# EAGLE library part RPI-BC-MAIN (library RPI-BC)
RPI-BC Main PCB. Requires 40-way 2.54mm pitch Pi Header Strip, Phoenix Contact part code PSTD 0,65X0,65/40-2,54 Farnell 2550733, black but they are also available in white color The four external connectors are 2.5mm pitch Phoenix Contact part code PTSM 0,5/ 4-HH-2,5-THR Farnell 2470197 Mating connector for attaching wires is PTSM 0,5/ 4-P-2,5 Farnell 2776562 with push-in wire termination (20-24 AWG wire range).
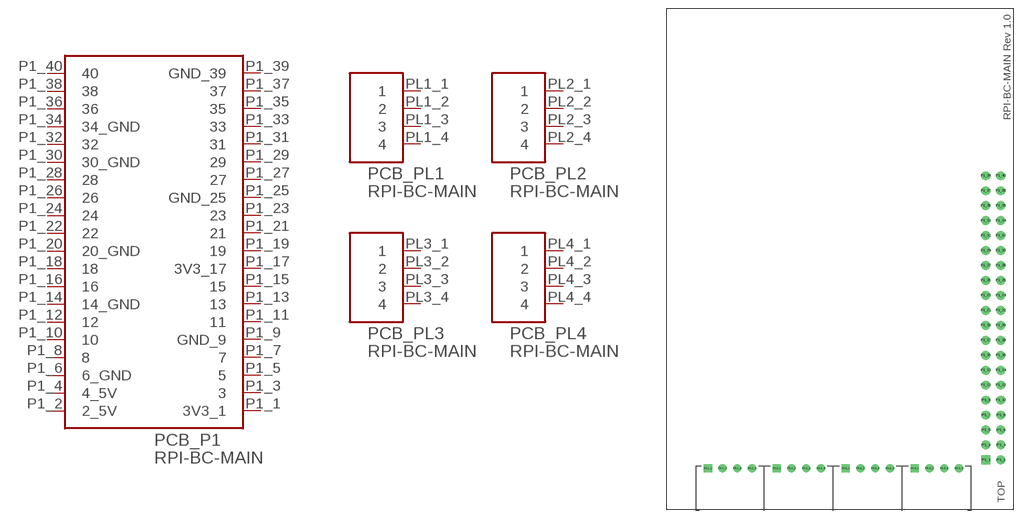
[diagram p0: symbol with the pads of RPI-BC-PCB; footprint RPI-BC-PCB]

Designator prefix PCB; gates _P1=RPI-BC-MAIN _PL1=RPI-BC-MAIN-PL _PL2=RPI-BC-MAIN-PL _PL3=RPI-BC-MAIN-PL _PL4=RPI-BC-MAIN-PL

## RPI-BC-MAIN  [RPI-BC-PCB]
P1_1  _P1:3V3_1
P1_2  _P1:2_5V
P1_3  _P1:3
P1_4  _P1:4_5V
P1_5  _P1:5
P1_6  _P1:6_GND
P1_7  _P1:7
P1_8  _P1:8
P1_9  _P1:GND_9
P1_10  _P1:10
P1_11  _P1:11
P1_12  _P1:12
P1_13  _P1:13
P1_14  _P1:14_GND
P1_15  _P1:15
P1_16  _P1:16
P1_17  _P1:3V3_17
P1_18  _P1:18
P1_19  _P1:19
P1_20  _P1:20_GND
P1_21  _P1:21
P1_22  _P1:22
P1_23  _P1:23
P1_24  _P1:24
P1_25  _P1:GND_25
P1_26  _P1:26
P1_27  _P1:27
P1_28  _P1:28
P1_29  _P1:29
P1_30  _P1:30_GND
P1_31  _P1:31
P1_32  _P1:32
P1_33  _P1:33
P1_34  _P1:34_GND
P1_35  _P1:35
P1_36  _P1:36
P1_37  _P1:37
P1_38  _P1:38
P1_39  _P1:GND_39
P1_40  _P1:40
PL1_1  _PL1:1
PL1_2  _PL1:2
PL1_3  _PL1:3
PL1_4  _PL1:4
PL2_1  _PL2:1
PL2_2  _PL2:2
PL2_3  _PL2:3
PL2_4  _PL2:4
PL3_1  _PL3:1
PL3_2  _PL3:2
PL3_3  _PL3:3
PL3_4  _PL3:4
PL4_1  _PL4:1
PL4_2  _PL4:2
PL4_3  _PL4:3
PL4_4  _PL4:4

## Footprint RPI-BC-PCB (pad centres in mm)
drill 1 square: P1_1 54.23,8.37
drill 1: P1_2 56.77,8.37; P1_3 54.23,10.91; P1_4 56.77,10.91; P1_5 54.23,13.45; P1_6 56.77,13.45; P1_7 54.23,15.99; P1_8 56.77,15.99; P1_9 54.23,18.53; P1_10 56.77,18.53; P1_11 54.23,21.07; P1_12 56.77,21.07; P1_13 54.23,23.61; P1_14 56.77,23.61; P1_15 54.23,26.15; P1_16 56.77,26.15; P1_17 54.23,28.69; P1_18 56.77,28.69; P1_19 54.23,31.23; P1_20 56.77,31.23; P1_21 54.23,33.77; P1_22 56.77,33.77; P1_23 54.23,36.31; P1_24 56.77,36.31; P1_25 54.23,38.85; P1_26 56.77,38.85; P1_27 54.23,41.39; P1_28 56.77,41.39; P1_29 54.23,43.93; P1_30 56.77,43.93; P1_31 54.23,46.47; P1_32 56.77,46.47; P1_33 54.23,49.01; P1_34 56.77,49.01; P1_35 54.23,51.55; P1_36 56.77,51.55; P1_37 54.23,54.09; P1_38 56.77,54.09; P1_39 54.23,56.63; P1_40 56.77,56.63
drill 0.9 square: PL1_1 7.05,6.95; PL2_1 18.75,6.95; PL3_1 30.45,6.95; PL4_1 42.15,6.95
drill 0.9: PL1_2 9.55,6.95; PL1_3 12.05,6.95; PL1_4 14.55,6.95; PL2_2 21.25,6.95; PL2_3 23.75,6.95; PL2_4 26.25,6.95; PL3_2 32.95,6.95; PL3_3 35.45,6.95; PL3_4 37.95,6.95; PL4_2 44.65,6.95; PL4_3 47.15,6.95; PL4_4 49.65,6.95